# Altium schematic symbol library 0527450697.SchLib: 1 symbol
Pins are listed as number, name and electrical type; pins without a type are passive.

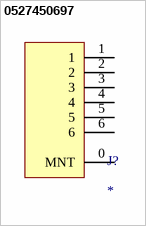
[diagram p0: symbol 0527450697]

## 0527450697
designator J?
pins: 0 MNT (power), 1 (power), 2 (power), 3 (power), 4 (power), 5 (power), 6 (power)